# Altium schematic symbol library TSM-108-01-L-SV header.SchLib: 1 symbol
Pins are listed as number, name and electrical type; pins without a type are passive.

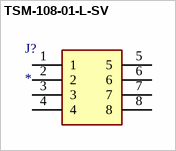
[diagram p0: symbol TSM-108-01-L-SV]

## TSM-108-01-L-SV
designator J?
Connector; Manufacturer_Name: SAMTEC; Manufacturer_Part_Number: TSM-108-01-L-SV; Description: Conn Unshrouded Header HDR 8 POS 2.54mm Solder ST Top Entry SMD Tube; Datasheet Link: https://suddendocs.samtec.com/catalog_english/tsm.pdf; Mouser Part Number: 200-TSM10801LSV; Mouser Price/Stock: https://www.mouser.co.uk/ProductDetail/Samtec/TSM-108-01-L-SV?qs=DZ6FV2pdG5tFLWF%252BqE0IDA%3D%3D; Arrow Part Number: TSM-108-01-L-SV; Arrow Price/Stock: https://www.arrow.com/en/products/tsm-108-01-l-sv/samtec?region=nac
footprint HUSRSP8W64P254_2032X254X838P
pins: 1, 2, 3, 4, 5, 6, 7, 8